# EAGLE library part ARM10_DEBUG (library Soil Power Sensor)
Connector Header Surface Mount 10 position 0.050" (1.27mm)
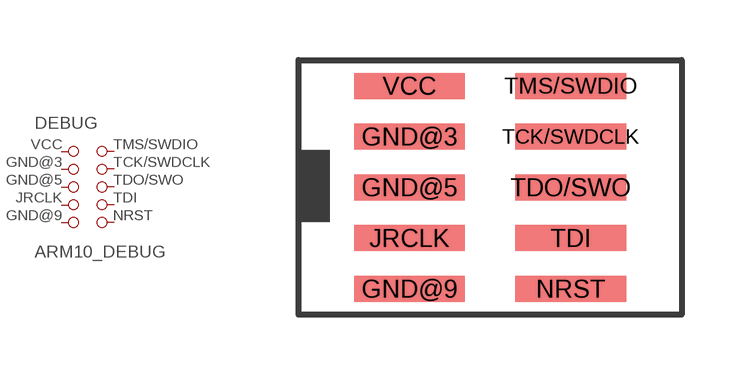
[diagram p11: symbol with the pads of ARM10_DEBUG; footprint ARM10_DEBUG]

Designator prefix DEBUG

## ARM10_DEBUG (AUTHOR: John Madden <jmadden173@pm.me>; DATE_CREATED: 2023-08-25; DATE_MODIFIED: 2023-08-25; MFC: CNC Tech; MPN: 3220-10-0300-00; REF: https://www.cnctech.us/pdfs/3220-XX-0300-00_.pdf)  [ARM10_DEBUG]
GND@3  3  pas
GND@5  5  pas
GND@9  9  pas
JRCLK  7  pas
NRST  10  pas
TCK/SWDCLK  4  pas
TDI  8  pas
TDO/SWO  6  pas
TMS/SWDIO  2  pas
VCC  1  pas

## Footprint ARM10_DEBUG (pad centres in mm)
smd 2.77 x 0.65: GND@3 0,-1.27; GND@5 0,-2.54; GND@9 0,-5.08; JRCLK 0,-3.81; NRST 4.03,-5.08; TCK/SWDCLK 4.03,-1.27; TDI 4.03,-3.81; TDO/SWO 4.03,-2.54; TMS/SWDIO 4.03,0; VCC 0,0